# EAGLE library part CAT25080HU4I-GT3 (library moteus_n1)
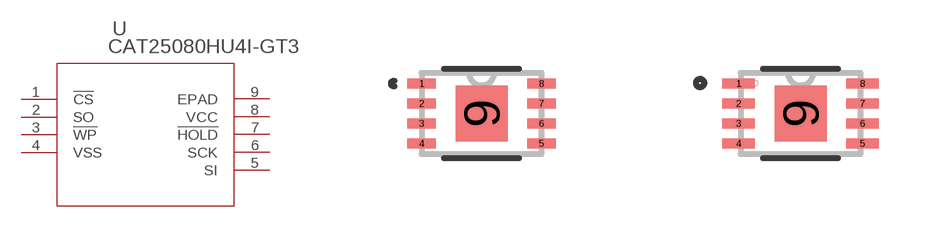
[diagram p6: symbol with the pads of UDFN8_2X3_ONS; footprints UDFN8_2X3_ONS, UDFN8_2X3_ONS-M]

Designator prefix U

## CAT25080HU4I-GT3 (COPYRIGHT: Copyright (C) 2022 Ultra Librarian. All rights reserved.; DIGI-KEY_PART_NUMBER_1: 2156-CAT25080HU4I-GT3-OS-ND; DIGI-KEY_PART_NUMBER_2: CAT25080HU4I-GT3-ND; DIGI-KEY_PART_NUMBER_3: CAT25080HU4I-GT3OSCT-ND; DIGI-KEY_PART_NUMBER_4: CAT25080HU4I-GT3OSDKR-ND; DIGI-KEY_PART_NUMBER_5: CAT25080HU4I-GT3OSTR-ND; MANUFACTURER_PART_NUMBER: CAT25080HU4I-GT3; MFR_NAME: onsemi)  [UDFN8_2X3_ONS]
1  !CS  pas
2  SO  out
3  !WP  pas
4  VSS  pwr
5  SI  in
6  SCK  pas
7  !HOLD  in
8  VCC  pwr
9  EPAD  pas

## CAT25080HU4I-GT3UDFN8_2X3_ONS-M (COPYRIGHT: Copyright (C) 2022 Ultra Librarian. All rights reserved.; DIGI-KEY_PART_NUMBER_1: 2156-CAT25080HU4I-GT3-OS-ND; DIGI-KEY_PART_NUMBER_2: CAT25080HU4I-GT3-ND; DIGI-KEY_PART_NUMBER_3: CAT25080HU4I-GT3OSCT-ND; DIGI-KEY_PART_NUMBER_4: CAT25080HU4I-GT3OSDKR-ND; DIGI-KEY_PART_NUMBER_5: CAT25080HU4I-GT3OSTR-ND; MANUFACTURER_PART_NUMBER: CAT25080HU4I-GT3; MFR_NAME: onsemi)  [UDFN8_2X3_ONS-M]
Pads as for UDFN8_2X3_ONS

## CAT25080HU4I-GT3UDFN8_2X3_ONS-L (COPYRIGHT: Copyright (C) 2022 Ultra Librarian. All rights reserved.; DIGI-KEY_PART_NUMBER_1: 2156-CAT25080HU4I-GT3-OS-ND; DIGI-KEY_PART_NUMBER_2: CAT25080HU4I-GT3-ND; DIGI-KEY_PART_NUMBER_3: CAT25080HU4I-GT3OSCT-ND; DIGI-KEY_PART_NUMBER_4: CAT25080HU4I-GT3OSDKR-ND; DIGI-KEY_PART_NUMBER_5: CAT25080HU4I-GT3OSTR-ND; MANUFACTURER_PART_NUMBER: CAT25080HU4I-GT3; MFR_NAME: onsemi)  [UDFN8_2X3_ONS-L]
Pads as for UDFN8_2X3_ONS

## Footprint UDFN8_2X3_ONS (pad centres in mm)
smd 0.711 x 0.254: 1 -1.499,0.75; 2 -1.499,0.25; 3 -1.499,-0.25; 4 -1.499,-0.75; 5 1.499,-0.75; 6 1.499,-0.25; 7 1.499,0.25; 8 1.499,0.75
smd 1.295 x 1.397: 9 0,0

## Footprint UDFN8_2X3_ONS-M (pad centres in mm)
smd 0.813 x 0.254: 1 -1.549,0.75; 2 -1.549,0.25; 3 -1.549,-0.25; 4 -1.549,-0.75; 5 1.549,-0.75; 6 1.549,-0.25; 7 1.549,0.25; 8 1.549,0.75
smd 1.295 x 1.397: 9 0,0

## Footprint UDFN8_2X3_ONS-L (pad centres in mm)
smd 0.61 x 0.254: 1 -1.448,0.75; 2 -1.448,0.25; 3 -1.448,-0.25; 4 -1.448,-0.75; 5 1.448,-0.75; 6 1.448,-0.25; 7 1.448,0.25; 8 1.448,0.75
smd 1.295 x 1.397: 9 0,0